# Altium schematic symbol library 2020-11-22_15-05-33.SchLib: 2 symbols
Pins are listed as number, name and electrical type; pins without a type are passive.

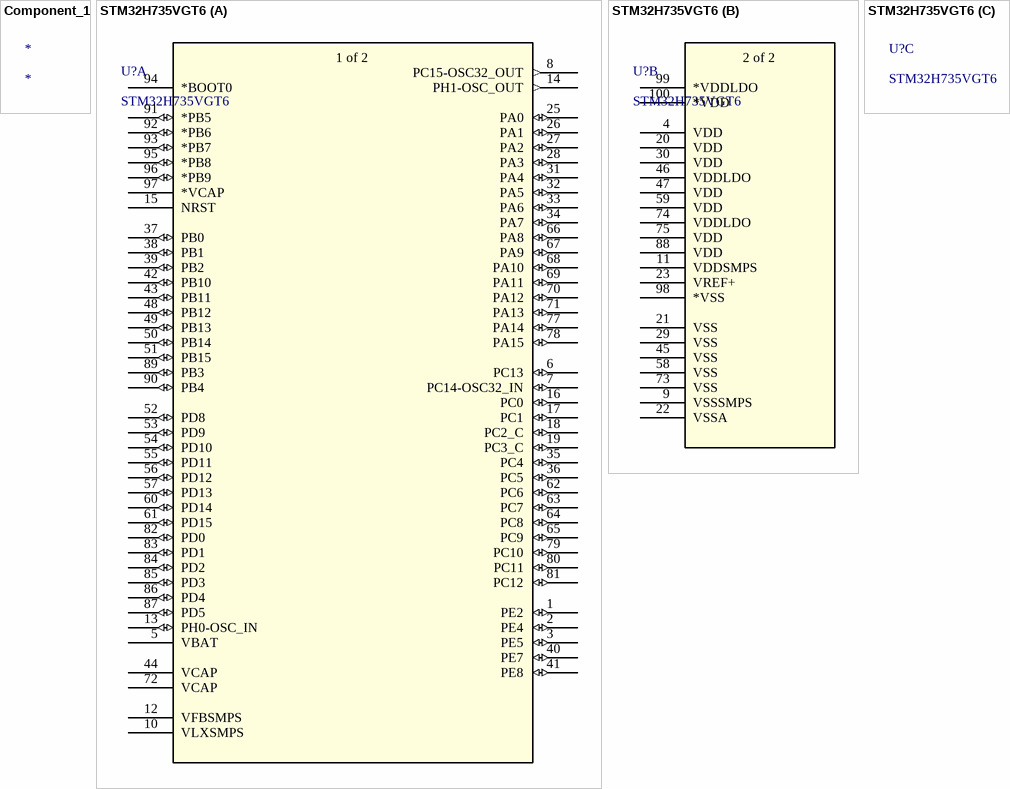
[diagram p0: symbols Component_1 to STM32H735VGT6]

## Component_1
designator *

## STM32H735VGT6
designator U?
No Description Available; SourceLibrary: Add_to_database_2020-11-18; Vendor: STMicroelectronics; Built_By: EMA_Matt; Datasheet: https://www.st.com/resource/en/datasheet/stm32h735ag.pdf; Manufacturer_Part_Number: STM32H735VGT6; Copyright: Copyright (C) 2018 Accelerated Designs. All rights reserved; RefDes: RefDes; Type: DEV
footprint LQFP_35VGT6
part A pins: 1 PE2 (io), 2 PE4 (io), 3 PE5 (io), 5 VBAT, 6 PC13 (io), 7 PC14-OSC32_IN (io), 8 PC15-OSC32_OUT (out), 10 VLXSMPS, 12 VFBSMPS, 13 PH0-OSC_IN (io), 14 PH1-OSC_OUT (out), 15 NRST, 16 PC0 (io), 17 PC1 (io), 18 PC2_C (io), 19 PC3_C (io), 25 PA0 (io), 26 PA1 (io), 27 PA2 (io), 28 PA3 (io), 31 PA4 (io), 32 PA5 (io), 33 PA6 (io), 34 PA7 (io), 35 PC4 (io), 36 PC5 (io), 37 PB0 (io), 38 PB1 (io), 39 PB2 (io), 40 PE7 (io), 41 PE8 (io), 42 PB10 (io), 43 PB11 (io), 44 VCAP, 48 PB12 (io), 49 PB13 (io), 50 PB14 (io), 51 PB15 (io), 52 PD8 (io), 53 PD9 (io), 54 PD10 (io), 55 PD11 (io), 56 PD12 (io), 57 PD13 (io), 60 PD14 (io), 61 PD15 (io), 62 PC6 (io), 63 PC7 (io), 64 PC8 (io), 65 PC9 (io), 66 PA8 (io), 67 PA9 (io), 68 PA10 (io), 69 PA11 (io), 70 PA12 (io), 71 PA13 (io), 72 VCAP, 77 PA14 (io), 78 PA15 (io), 79 PC10 (io), 80 PC11 (io), 81 PC12 (io), 82 PD0 (io), 83 PD1 (io), 84 PD2 (io), 85 PD3 (io), 86 PD4 (io), 87 PD5 (io), 89 PB3 (io), 90 PB4 (io), 91 *PB5 (io), 92 *PB6 (io), 93 *PB7 (io), 94 *BOOT0, 95 *PB8 (io), 96 *PB9 (io), 97 *VCAP
part B pins: 4 VDD (power), 9 VSSSMPS, 11 VDDSMPS (power), 20 VDD (power), 21 VSS, 22 VSSA, 23 VREF+ (power), 29 VSS, 30 VDD (power), 45 VSS, 46 VDDLDO (power), 47 VDD (power), 58 VSS, 59 VDD (power), 73 VSS, 74 VDDLDO (power), 75 VDD (power), 88 VDD (power), 98 *VSS, 99 *VDDLDO (power), 100 *VDD (power)
part A text: 1 of 2
part B text: 2 of 2